# Altium schematic symbol library L78L06ACD13TR.SchLib: 1 symbol
Pins are listed as number, name and electrical type; pins without a type are passive.

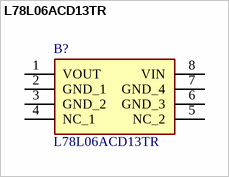
[diagram p0: symbol L78L06ACD13TR]

## L78L06ACD13TR
designator B?
L78L06ACD13TR, Voltage Regulator, 0.1A 6 V, +/-5%, 8-Pin, SOIC; Manufacturer_Name: STMicroelectronics; Geometry.Height: 1.75mm; Mouser Part Number: 511-L78L06ACD-TR; Mouser Price/Stock: https://www.mouser.co.uk/ProductDetail/STMicroelectronics/L78L06ACD13TR?qs=nGCvt7cgQioRPwLhgxb%2FbQ%3D%3D; Manufacturer_Part_Number: L78L06ACD13TR; Datasheet Link: http://www.st.com/st-web-ui/static/active/en/resource/technical/document/datasheet/CD00000446.pdf
footprint SOIC127P600X175-8N
pins: 1 VOUT, 2 GND_1, 3 GND_2, 4 NC_1, 5 NC_2, 6 GND_3, 7 GND_4, 8 VIN